# EAGLE library part LC05111C13MTTTG (library BattBoard)
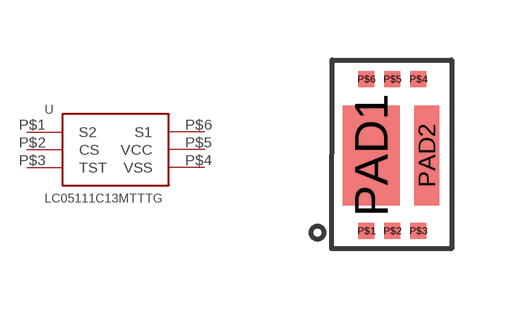
[diagram p5: symbol with the pads of WDFN6; footprint WDFN6]

Designator prefix U

## LC05111C13MTTTG  [WDFN6]
P$1  S2
P$2  CS
P$3  TST
P$4  VSS
P$5  VCC
P$6  S1

## Footprint WDFN6 (pad centres in mm)
smd 0.4 x 0.4: P$1 -0.66,-1.89; P$2 -0.01,-1.89; P$3 0.64,-1.89; P$4 0.64,1.91; P$5 -0.01,1.91; P$6 -0.66,1.91
smd 1.42 x 2.5: PAD1 -0.54,0
smd 0.62 x 2.5: PAD2 0.85,0